# Altium schematic symbol library WTFschlibra.SchLib: 42 symbols
Pins are listed as number, name and electrical type; pins without a type are passive.

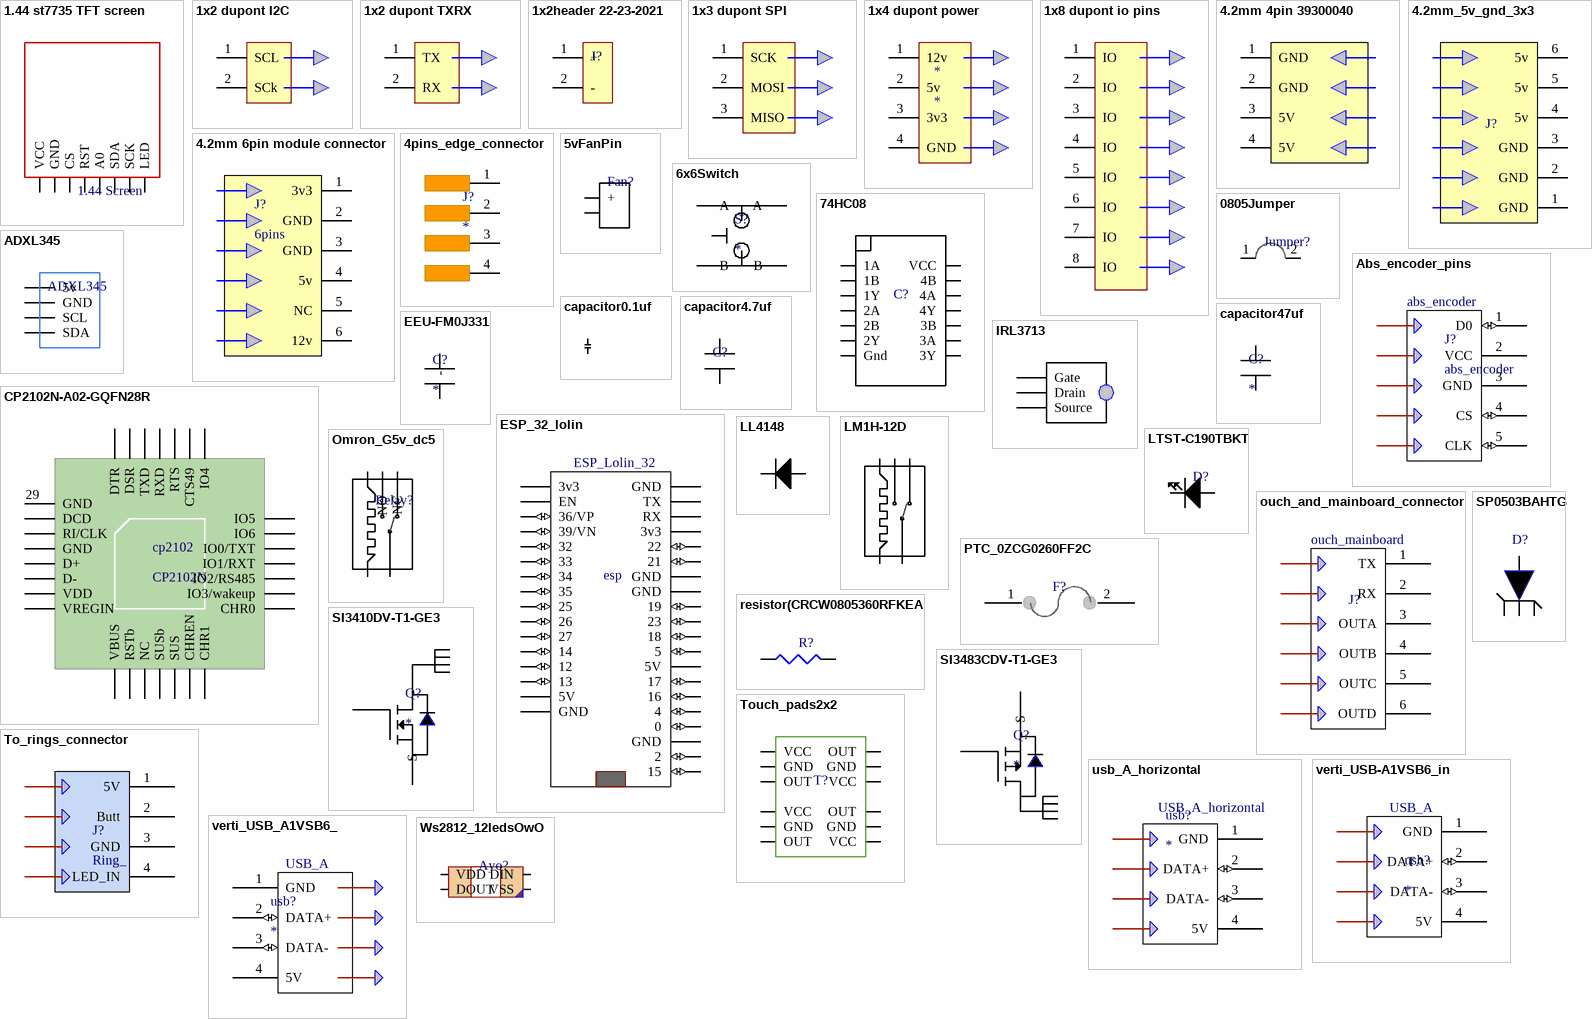
[diagram p0: symbols 1.44 st7735 TFT screen to Ws2812_12ledsOwO]

## 1.44 st7735 TFT screen
designator Screen, comment 1.44 Screen
footprint 1.44TFT Screen
pins: 1 VCC, 2 GND, 3 CS, 4 RST, 5 A0, 6 SDA, 7 SCK, 8 LED

## 1x2 dupont I2C
designator J?  (value not drawn)
footprint 1x2 dupont
pins: 1 SCL, 2 SCk

## 1x2 dupont TXRX
designator J?  (value not drawn)
footprint 1x2 dupont
pins: 1 TX, 2 RX

## 1x2header 22-23-2021
designator J?, comment 1*2 Header  (value not drawn)
Connector Wire to Board Header 2 Position 2.54mm Solder Stra; Manufacturer 1: Molex; Contact Resistance: 10mR; Max Current Rating: 4A; Voltage Rating: 250V; Number of Positions: 2; Gender: Male; Insulation Resistance: 500GR; Approvals: UL,CSA; Glow Wire Compliant: Non-compliant; Supplier 1: Digi-Key; Manufacturer Part Number 1: 22-23-2021; RoHS: Yes; Category: Headers and Wire Housings; Stock 1: 28103; Mount: Through Hole; Contact Plating: Tin,Copper; Housing Color: White; Housing Material: Nylon; Min Operating Temperature: 0°C; Max Operating Temperature: 75°C; Number of Rows: 1; Current Rating: 4A; Package Quantity: 3000; Packaging: Bulk; Termination: Through Hole; Number of Contacts: 2; Orientation: Straight; Voltage Rating (DC): 250V; Number of Circuits: 2; Length: 5.08mm; Pitch: 2.54mm; Depth: 6.35mm; Radiation Hardening: No; REACH SVHC: Unknown; Halogen Free: Low Halogen; Lead Free: Lead Free; Flammability Rating: UL94 V-0; ComponentLink1URL: https://datasheet.ciiva.com/19454/232266-19454304.pdf?src-supplier=Jameco; ComponentLink1Description: https://datasheet.ciiva.com/19454/232266-19454304.pdf?src-supplier=Jameco; ComponentLink2URL: https://datasheet.ciiva.com/5150/0022232021-pcb-headers-227096-5150681.pdf?src-supplier=Mouser; ComponentLink2Description: https://datasheet.ciiva.com/5150/0022232021-pcb-headers-227096-5150681.pdf?src-supplier=Mouser; ComponentLink3URL: https://datasheet.ciiva.com/22683/1834442-22683561.pdf?src-supplier=Element14; ComponentLink3Description: https://datasheet.ciiva.com/22683/1834442-22683561.pdf?src-supplier=Element14; ComponentLink4URL: https://datasheet.ciiva.com/11746/0900766b80d8f4d1-11746058.pdf?src-supplier=RSComponents; ComponentLink4Description: https://datasheet.ciiva.com/11746/0900766b80d8f4d1-11746058.pdf?src-supplier=RSComponents; ComponentLink5URL: https://datasheet.ciiva.com/30253/114200022232021-pcb-headers-30253002.pdf?src-supplier=Onlinecomponents.com; ComponentLink5Description: https://datasheet.ciiva.com/30253/114200022232021-pcb-headers-30253002.pdf?src-supplier=Onlinecomponents.com; ComponentLink6URL: https://datasheet.ciiva.com/18453/70190606-18453638.pdf?src-supplier=Allied+Electronics; ComponentLink6Description: https://datasheet.ciiva.com/18453/70190606-18453638.pdf?src-supplier=Allied+Electronics; ComponentLink7URL: https://datasheet.ciiva.com/16658/0022232021-pcb-headers-16658167.pdf?src-supplier=Avnet+Europe; ComponentLink7Description: https://datasheet.ciiva.com/16658/0022232021-pcb-headers-16658167.pdf?src-supplier=Avnet+Europe; ComponentLink8URL: https://datasheet.ciiva.com/9468/0022232021-pcb-headers-9468476.pdf?src-supplier=Avnet; ComponentLink8Description: https://datasheet.ciiva.com/9468/0022232021-pcb-headers-9468476.pdf?src-supplier=Avnet; Supplier Part Number 1: 900-0022232021-ND; Color: White; Contact Material: Brass; Height: 10.67mm
footprint Header1x2
pins: 1 +, 2 -

## 1x3 dupont SPI
designator J?  (value not drawn)
footprint 1x3 DUPONT
pins: 1 SCK, 2 MOSI, 3 MISO

## 1x4 dupont power
designator *
footprint 1x4 DUPONT
pins: 1 12v, 2 5v, 3 3v3, 4 GND

## 1x8 dupont io pins
designator j?  (value not drawn)
footprint 1x8 dupont
pins: 1 IO, 2 IO, 3 IO, 4 IO, 5 IO, 6 IO, 7 IO, 8 IO

## 4.2mm 4pin 39300040
designator J?
for neopixels array; Manufacturer 1: Molex; Number of Terminals/Pins: 4; Connector Type: Header,Male Pin; Number of Ports: 1; Gender: Male; Contact Resistance: 10mR; Pitch: 4.2mm; Row Spacing: 0.165inch; Supplier 1: Digi-Key; Manufacturer Part Number 1: 39-29-1048; RoHS: Yes; Category: Headers and Wire Housings; Stock 1: 1264; Pricing 1: 1=0.89000, 10=0.78000, 100=0.67300, 500=0.55062, 1000=0.48944, 5000=0.42826, 10000=0.40685 (USD); Mount: Through Hole; Contact Shape: Square; Insulation Material: Nylon; Insulation Color: Natural; Housing Material: Nylon; Housing Color: Natural; Contact Material: Brass; Contact Plating: Tin,Copper; Color: Natural; Min Operating Temperature: -40°C; Max Operating Temperature: 105°C; Packaging: Bulk; Number of Positions: 4; Termination: Solder; Number of Contacts: 4; Orientation: Right Angle; Number of Rows: 2; Fastening Type: Ramp; Length: 19.6mm; Depth: 19.4mm; Flammability Rating: UL94 V-2; Supplier Part Number 1: WM3901-ND; ComponentLink7Description: realdatasheet; ComponentLink7URL: https://www.molex.com/pdm_docs/sd/039300040_sd.pdf
footprint 4.2mm 4pos
footprint 1x4 DUPONT
pins: 1 GND, 2 GND, 3 5V, 4 5V

## 4.2mm 6pin module connector
designator J?, comment 6pins
MiniFit Jr RA Hdr Assy LCP 6 w/press pgs; Manufacturer 1: Molex; Current Rating: 13A; Voltage Rating: 600V; Number of Positions: 6; Pitch: 4.2mm; Supplier 1: Digi-Key; Manufacturer Part Number 1: 50-36-2462; RoHS: Yes; Category: Headers and Wire Housings; Stock 1: 3080; Pricing 1: 1=1.09000, 10=0.96100, 100=0.82900, 500=0.67824, 1000=0.60288, 5000=0.52752, 10000=0.50114 (USD); Mount: Through Hole; Number of Pins: 6; Contact Plating: Tin; Housing Material: Polymer; Material: Brass; Contact Material: Brass; Min Operating Temperature: -40°C; Max Operating Temperature: 105°C; Contact Gender: Male; Packaging: Tray; Package Quantity: 920; Number of Rows: 2; Termination: Through Hole; Orientation: Right Angle; Row Spacing: 4.2mm; Flammability Rating: UL94 V-0; REACH SVHC: No SVHC; ELV: Compliant; ComponentLink1URL: https://datasheet.ciiva.com/29142/050362462-sd-29142097.pdf?src-supplier=Digi-Key; ComponentLink1Description: https://datasheet.ciiva.com/29142/050362462-sd-29142097.pdf?src-supplier=Digi-Key; Supplier Part Number 1: WM14529-ND; ComponentLink2Description: dimention; ComponentLink2URL: https://www.molex.com/pdm_docs/sd/050362462_sd.pdf
footprint 4.2mm 6pin power connector
pins: 1 3v3 (power), 2 GND (power), 3 GND (power), 4 5v (power), 5 NC, 6 12v (power)

## 4.2mm_5v_gnd_3x3
designator J?  (value not drawn)
footprint 4.2MM_6pin_all_5
pins: 1 GND (power), 2 GND, 3 GND (power), 4 5v (power), 5 5v (power), 6 5v (power)

## 4pins_edge_connector
designator J?
footprint 4pins_edge_connector
pins: 1 +5v, 2 Data, 3 GND, 4 Button

## 5vFanPin
designator Fan?  (value not drawn)
footprint 1x2 dupont
pins: 1 +, 2 -

## 6x6Switch
designator S?
footprint 6x6Switch
pins: 1 A, 2 B, 3 B, 4 A

## 74HC08
designator C?, comment 74hc08d  (value not drawn)
ComponentLink1Description: 4 2-input and gate; ComponentLink1URL: https://pdf1.alldatasheet.com/datasheet-pdf/view/646498/PHILIPS/74HC08D.html
footprint SOP14(74hc08d)
pins: 1 1A, 2 1B, 3 1Y, 4 2A, 5 2B, 6 2Y, 7 Gnd, 8 3Y, 9 3A, 10 3B, 11 4Y, 12 4A, 13 4B, 14 VCC

## 0805Jumper
designator Jumper?  (value not drawn)
footprint 0805Jumper
pins: 1, 2

## Abs_encoder_pins
designator J?, comment abs_encoder
ComponentLink1Description: datasheet; ComponentLink1URL: http://www.jst-mfg.com/product/pdf/eng/eXH.pdf
footprint xh 2.54 5 pin
pins: 1 D0 (io), 2 VCC (power), 3 GND (power), 4 CS (io), 5 CLK (io)

## ADXL345
designator ADXL345  (value not drawn)
footprint ADXL345
pins: 1 5v, 2 GND, 3 SCL, 4 SDA

## capacitor0.1uf
designator C?  (value not drawn)
for leds and smol
footprint Capacitor0805
pins: 1 -, 2 +

## capacitor4.7uf
designator C?  (value not drawn)
Cap Ceramic 4.7uF 6.3V X5R 20% Pad SMD 0402 85C T/R; Manufacturer 1: Murata; Manufacturer Part Number 1: GRM155R60J475ME87J; Supplier 1: Digi-Key; RoHS: No; Category: Ceramic Capacitors; Stock 1: 206568; Pricing 1: 1=0.16000, 10=0.11100, 50=0.06280, 100=0.05210, 500=0.03654, 1000=0.03025, 2500=0.02815, 5000=0.02575 (USD); Capacitance: 4.7uF; Tolerance: 20%; Dielectric: X5R; Voltage Rating (DC): 6.3V; Length: 1mm; Thickness: 500um; Width: 500um; ComponentLink1URL: https://search.murata.co.jp/Ceramy/image/img/A01X/G101/ENG/GRM155R60J475ME87-01.pdf?src-supplier=Digi-Key; ComponentLink1Description: https://search.murata.co.jp/Ceramy/image/img/A01X/G101/ENG/GRM155R60J475ME87-01.pdf?src-supplier=Digi-Key; Supplier Part Number 1: 490-18211-1-ND
footprint Capacitor0603
pins: 1 -, 2 +

## capacitor47uf
designator C?
Capacitor, 47 µF, 25 V, 1206 [3216 Metric], ± 20%, X5R, C Series; Manufacturer 1: TDK; Manufacturer Part Number 1: C3216X5R1E476M160AC; Dielectric Material: Ceramic; Capacitance: 47uF; Voltage Rating: 25V; Supplier 1: Digi-Key; RoHS: Yes; Category: Ceramic Capacitors; Stock 1: 901922; Pricing 1: 1=1.15000, 10=0.90800, 50=0.78660, 100=0.68060, 500=0.51426, 1000=0.45375 (USD); Mount: Surface Mount; Case/Package: 1206; Weight: 0.000571oz; Case Code (Metric): 3216; Case Code (Imperial): 1206; Min Operating Temperature: -55°C; Max Operating Temperature: 85°C; Packaging: Tape and Reel; Package Quantity: 1; Tolerance: 20%; Voltage Rating (DC): 25V; Dielectric: X5R; Termination: SMD/SMT; Resistor Type: Ceramic; Voltage: 25V; Length: 3.2mm; Height: 1.6mm; Width: 0.063inch; Depth: 1.6mm; Thickness: 1.6mm; REACH SVHC: No SVHC; Lead Free: Lead Free; ComponentLink1URL: https://datasheet.ciiva.com/6285/tdkmlcccaprange-6285269.pdf?src-supplier=Digi-Key; ComponentLink1Description: https://datasheet.ciiva.com/6285/tdkmlcccaprange-6285269.pdf?src-supplier=Digi-Key; ComponentLink2URL: https://datasheet.ciiva.com/6285/tdkmlcccaprange-6285271.pdf?src-supplier=Digi-Key; ComponentLink2Description: https://datasheet.ciiva.com/6285/tdkmlcccaprange-6285271.pdf?src-supplier=Digi-Key; ComponentLink3URL: https://datasheet.ciiva.com/6285/tdkmlcccaprange-6285273.pdf?src-supplier=Digi-Key; ComponentLink3Description: https://datasheet.ciiva.com/6285/tdkmlcccaprange-6285273.pdf?src-supplier=Digi-Key; ComponentLink4URL: https://datasheet.ciiva.com/16482/general-b11-16482556.pdf?src-supplier=Future+Electronics; ComponentLink4Description: https://datasheet.ciiva.com/16482/general-b11-16482556.pdf?src-supplier=Future+Electronics; Supplier Part Number 1: 445-8047-1-ND
footprint Capacitor1206
pins: 1 -, 2 +

## CP2102N-A02-GQFN28R
designator cp2102, comment CP2102N
Full Speed USB to UART Bridge USB 2.0 3.3V T/R Automotive 28-Pin QFN EP; Manufacturer 1: Silicon Labs; Manufacturer Part Number 1: CP2102N-A02-GQFN28R; Supplier 1: Digi-Key; RoHS: No; Stock 1: 1682; Pricing 1: 1=1.40000, 25=1.35160, 100=1.29950 (USD); Supplier Part Number 1: 336-5890-1-ND
footprint CP2102N_QFN28
pins: 1 DCD, 2 RI/CLK, 3 GND, 4 D+, 5 D-, 6 VDD, 7 VREGIN, 8 VBUS, 9 RSTb, 10 NC, 11 SUSb, 12 SUS, 13 CHREN, 14 CHR1, 15 CHR0, 16 IO3/wakeup, 17 IO2/RS485, 18 IO1/RXT, 19 IO0/TXT, 20 IO6, 21 IO5, 22 IO4, 23 CTS49, 24 RTS, 25 RXD, 26 TXD, 27 DSR, 28 DTR, 29 GND

## EEU-FM0J331
designator C?
Cap 330 uF;  Tol 20%;  Vol-Rtg 6.3 VDC;  Radial;  6.3x11.2;  Bulk; Manufacturer 1: Panasonic; Manufacturer Part Number 1: EEU-FM0J331; Dielectric Material: Aluminium; Ripple Current (AC): 455mA; Capacitance: 330uF; Voltage Rating: 6.3V; Impedance: 130mR; Life (Hours): 2000Hour; Leakage Current: 10nA; Lead Length: 17mm; Lead Diameter: 0.5mm; Outside Diameter: 6mm; Supplier 1: Digi-Key; RoHS: Yes; Category: Aluminum Electrolytic Capacitors; Stock 1: 15455; Pricing 1: 1=0.30000, 10=0.21200, 50=0.14800, 100=0.12690, 500=0.09518, 1000=0.08037, 2500=0.07614, 5000=0.07191 (USD); Mount: Through Hole,PCB; Case/Package: Radial; Number of Pins: 2; Min Operating Temperature: -40°C; Max Operating Temperature: 105°C; Packaging: Bulk; Tolerance: 20%; Ripple Current: 455mA; Package Quantity: 200; ESR (Equivalent Series Resistance): 130mR; Voltage Rating (DC): 6.3V; Termination: Radial; Voltage: 6.3V; Diameter: 6mm; Length: 11.2mm; Height: 11.2mm; Lead Pitch: 2.5mm; Height - Seated (Max): 0.5inch; Radiation Hardening: No; Lead Free: Lead Free; REACH SVHC: No SVHC; ComponentLink1URL: https://datasheet.ciiva.com/11778/0900766b805f3abe-11778876.pdf?src-supplier=RSComponents; ComponentLink1Description: https://datasheet.ciiva.com/11778/0900766b805f3abe-11778876.pdf?src-supplier=RSComponents; ComponentLink2URL: https://datasheet.ciiva.com/92/aba0000ce108-92408.pdf?src-supplier=Digi-Key; ComponentLink2Description: https://datasheet.ciiva.com/92/aba0000ce108-92408.pdf?src-supplier=Digi-Key; ComponentLink3URL: https://datasheet.ciiva.com/30086/aba0000ce108-30086253.pdf?src-supplier=Onlinecomponents.com; ComponentLink3Description: https://datasheet.ciiva.com/30086/aba0000ce108-30086253.pdf?src-supplier=Onlinecomponents.com; ComponentLink4URL: https://datasheet.ciiva.com/16432/aba0000ce108-16432949.pdf?src-supplier=Future+Electronics; ComponentLink4Description: https://datasheet.ciiva.com/16432/aba0000ce108-16432949.pdf?src-supplier=Future+Electronics; ComponentLink5URL: https://datasheet.ciiva.com/46441/26036-46441017.pdf?src-supplier=Element14; ComponentLink5Description: https://datasheet.ciiva.com/46441/26036-46441017.pdf?src-supplier=Element14; ComponentLink6URL: https://datasheet.ciiva.com/14608/70068540-14608622.pdf?src-supplier=Allied+Electronics; ComponentLink6Description: https://datasheet.ciiva.com/14608/70068540-14608622.pdf?src-supplier=Allied+Electronics; Supplier Part Number 1: P12918-ND
footprint 2.5mmCapacitor
pins: 1 -, 2 +

## ESP_32_lolin
designator esp, comment processor  (value not drawn)
footprint ESP_32_socket
pins: 1 GND (power), 2 TX, 3 RX, 4 3v3 (power), 5 22 (io), 6 21 (io), 7 GND (power), 8 GND (power), 9 19 (io), 10 23 (io), 11 18 (io), 12 5 (io), 13 5V (power), 14 17 (io), 15 16 (io), 16 4 (io), 17 0 (io), 18 GND (power), 19 2 (io), 20 15 (io), 21 3v3 (power), 22 EN "5v", 23 36/VP (io), 24 39/VN (io), 25 32 (io), 26 33 (io), 27 34 (io), 28 35 (io), 29 25 (io), 30 26 (io), 31 27 (io), 32 14 (io), 33 12 (io), 34 13 (io), 35 5V (power), 36 GND (power)
text: ESP_Lolin_32

## IRL3713
designator *  (value not drawn)
footprint TO_220
pins: 1 Gate, 2 Drain, 3 Source

## LL4148
designator D?  (value not drawn)
ON SEMICONDUCTOR - LL4148 - Small Signal Diode, Single, 100 V, 200 mA, 1 V, 4 ns, 2 A; Manufacturer 1: ON Semiconductor / Fairchild; Average Rectified Current: 200mA; Max Repetitive Reverse Voltage (Vrrm): 100V; Max Surge Current: 2A; Forward Voltage: 1V; Max Reverse Current: 25nA; Recovery Time: 4ns; Power Dissipation: 500mW; Supplier 1: Digi-Key; Manufacturer Part Number 1: LL4148; RoHS: Yes; Category: Rectifier Diodes; Stock 1: 428902; Pricing 1: 1=0.10000, 10=0.08400, 100=0.03220, 500=0.02346, 1000=0.01575 (USD); Mount: Surface Mount; Number of Pins: 2; Weight: 0.01lb; Contact Plating: Tin,Matte; Min Operating Temperature: -65°C; Max Operating Temperature: 175°C; Packaging: Tape and Reel; Package Quantity: 2500; Forward Current: 200mA; Reverse Recovery Time: 4ns; Peak Non-Repetitive Surge Current: 2A; Max Forward Surge Current (Ifsm): 2A; Element Configuration: Single; Voltage: 100V; Max Reverse Voltage (DC): 100V; Reverse Voltage: 100V; Length: 3.6mm; Width: 1.5mm; Height: 1.5mm; Radiation Hardening: No; REACH SVHC: No SVHC; Lead Free: Lead Free; ComponentLink1URL: https://datasheet.ciiva.com/1181/1730036-1181026.pdf?src-supplier=Element14; ComponentLink1Description: https://datasheet.ciiva.com/1181/1730036-1181026.pdf?src-supplier=Element14; ComponentLink2URL: https://datasheet.ciiva.com/8303/ll4148-8303779.pdf?src-supplier=Avnet; ComponentLink2Description: https://datasheet.ciiva.com/8303/ll4148-8303779.pdf?src-supplier=Avnet; ComponentLink3URL: https://datasheet.ciiva.com/27048/94908-27048041.pdf?src-supplier=Jameco; ComponentLink3Description: https://datasheet.ciiva.com/27048/94908-27048041.pdf?src-supplier=Jameco; ComponentLink4URL: https://datasheet.ciiva.com/4453/ll4148-70504-4453114.pdf?src-supplier=Mouser; ComponentLink4Description: https://datasheet.ciiva.com/4453/ll4148-70504-4453114.pdf?src-supplier=Mouser; ComponentLink5URL: https://datasheet.ciiva.com/910/ll4148-910343.pdf?src-supplier=Digi-Key; ComponentLink5Description: https://datasheet.ciiva.com/910/ll4148-910343.pdf?src-supplier=Digi-Key; ComponentLink6URL: https://datasheet.ciiva.com/910/ll4148-910344.pdf?src-supplier=Digi-Key; ComponentLink6Description: https://datasheet.ciiva.com/910/ll4148-910344.pdf?src-supplier=Digi-Key; ComponentLink7URL: https://datasheet.ciiva.com/910/ll4148-910345.pdf?src-supplier=Digi-Key; ComponentLink7Description: https://datasheet.ciiva.com/910/ll4148-910345.pdf?src-supplier=Digi-Key; ComponentLink8URL: https://datasheet.ciiva.com/22735/1896420-22735578.pdf?src-supplier=Element14; ComponentLink8Description: https://datasheet.ciiva.com/22735/1896420-22735578.pdf?src-supplier=Element14; ComponentLink9URL: https://datasheet.ciiva.com/26912/getdatasheetpartid-110057-26912779.pdf?src-supplier=Verical; ComponentLink9Description: https://datasheet.ciiva.com/26912/getdatasheetpartid-110057-26912779.pdf?src-supplier=Verical; ComponentLink10URL: https://datasheet.ciiva.com/8053/1896420-8053645.pdf?src-supplier=Element14; ComponentLink10Description: https://datasheet.ciiva.com/8053/1896420-8053645.pdf?src-supplier=Element14; Supplier Part Number 1: LL4148FSCT-ND
footprint SOD80-LL4148
pins: 1, 2

## LM1H-12D
designator Relay?  (value not drawn)
footprint Relay LM1H-12D
pins: 1 Coli_A, 2 Coli_B, 3 COM, 4 NO, 5 NC

## LTST-C190TBKT
designator D?, comment Led  (value not drawn)
LED BLUE CLEAR CHIP SMD; Manufacturer 1: Vishay Lite-On; Manufacturer Part Number 1: LTST-C190TBKT; Lens Color: Colorless; Viewing Angle: 130°; Forward Voltage: 3.8V; Lens Style: Diffused,Colorless,Clear,Rectangular; Luminous Intensity: 180mcd; Forward Current: 20mA; Dominant Wavelength: 475nm; Number of Elements: 1; Power Dissipation: 76mW; Wavelength: 468nm; Reverse Voltage: 5V; Supplier 1: Digi-Key; RoHS: Yes; Category: LEDs; Stock 1: 76203; Pricing 1: 1=0.50000, 10=0.35600, 100=0.15840, 500=0.11088, 1000=0.09108 (USD); Mount: Surface Mount; Case/Package: 0603; Number of Pins: 2; Color: Blue; Case Code (Metric): 1608; Case Code (Imperial): 0603; Min Operating Temperature: -20°C; Max Operating Temperature: 80°C; Packaging: Tape and Reel; Package Quantity: 1; Illumination Color: Blue; Test Current: 20mA; Lens Transparency: Clear; Number of LEDs: 1; Length: 1.6mm; Height: 0.8mm; Width: 0.8mm; Depth: 0.8mm; Radiation Hardening: No; Lead Free: Lead Free; ComponentLink1URL: https://datasheet.ciiva.com/16353/lite-on20ltst-c190tbkt-16353409.pdf?src-supplier=Future+Electronics; ComponentLink1Description: https://datasheet.ciiva.com/16353/lite-on20ltst-c190tbkt-16353409.pdf?src-supplier=Future+Electronics; ComponentLink2URL: https://datasheet.ciiva.com/15117/getdatasheetpartid-131310-15117667.pdf?src-supplier=Verical; ComponentLink2Description: https://datasheet.ciiva.com/15117/getdatasheetpartid-131310-15117667.pdf?src-supplier=Verical; ComponentLink3URL: https://datasheet.ciiva.com/2110/ltst-c190tbkt-2110473.pdf?src-supplier=Digi-Key; ComponentLink3Description: https://datasheet.ciiva.com/2110/ltst-c190tbkt-2110473.pdf?src-supplier=Digi-Key; ComponentLink4URL: https://datasheet.ciiva.com/12400/lite-on-ltst-c190tbkt-187381-12400873.pdf?src-supplier=Mouser; ComponentLink4Description: https://datasheet.ciiva.com/12400/lite-on-ltst-c190tbkt-187381-12400873.pdf?src-supplier=Mouser; ComponentLink5URL: https://datasheet.ciiva.com/11774/0900766b80dc02ab-11774378.pdf?src-supplier=RSComponents; ComponentLink5Description: https://datasheet.ciiva.com/11774/0900766b80dc02ab-11774378.pdf?src-supplier=RSComponents; ComponentLink6URL: https://datasheet.ciiva.com/26913/ltst-c190tbkt-26913716.pdf?src-supplier=IIIC; ComponentLink6Description: https://datasheet.ciiva.com/26913/ltst-c190tbkt-26913716.pdf?src-supplier=IIIC; ComponentLink7URL: https://datasheet.ciiva.com/2110/s-110-ltst-c190tbkt0630-2110475.pdf?src-supplier=Digi-Key; ComponentLink7Description: https://datasheet.ciiva.com/2110/s-110-ltst-c190tbkt0630-2110475.pdf?src-supplier=Digi-Key; ComponentLink8Description: 橘色的; ComponentLink8URL: https://www.digikey.tw/product-detail/zh/lite-on-inc/LTST-C191KFKT/160-1445-1-ND/386832
footprint LED0603
pins: 1, 2

## Omron_G5v_dc5
designator Relay?  (value not drawn)
ComponentLink1Description: datasheed_be_aware of pin; ComponentLink1URL: https://omronfs.omron.com/en_US/ecb/products/pdf/en-g5v_1.pdf
footprint G5v1_5vdc
pins: 1 Coli_A, 2 Coli_B, 3 COM, 4 NC, 5 NO

## ouch_and_mainboard_connector
designator J?  (value not drawn)
footprint xh2.54 6pin
pins: 1 TX, 2 RX, 3 OUTA, 4 OUTB, 5 OUTC, 6 OUTD
text: ouch_mainboard

## PTC_0ZCG0260FF2C
designator F?  (value not drawn)
ComponentLink1Description: Digikey; ComponentLink1URL: https://www.digikey.tw/product-detail/zh/bel-fuse-inc/0ZCG0260FF2C/507-1778-1-ND/4156282
footprint SMD_1812
pins: 1, 2

## resistor(CRCW0805360RFKEA
designator R?, comment 360R  (value not drawn)
Res Thick Film 0805 360 Ohm 1% 0.125W(1/8W) ±100ppm/C Molded SMD Automotive Paper T/R; Manufacturer 1: Vishay; Manufacturer Part Number 1: CRCW0805360RFKEA; Temperature Coefficient: 100ppm/°C; Max Power Dissipation: 125mW; Voltage Rating (DC): 150V; Supplier 1: Digi-Key; RoHS: Yes; Category: Chip SMD Resistors; Stock 1: 25005; Pricing 1: 1=0.10000, 10=0.06000, 100=0.02450, 1000=0.01102, 2500=0.00957 (USD); Case/Package: 0805; Number of Pins: 2; Weight: 0.000194oz; Case Code (Metric): 2012; Case Code (Imperial): 0805; Contact Plating: Tin; Number of Terminals: 2; Min Operating Temperature: -55°C; Max Operating Temperature: 155°C; Resistance: 360R; Tolerance: 1%; Packaging: Tape and Reel; Composition: Thick Film; Package Quantity: 10; Number of Terminations: 2; Features: Automotive AEC-Q200; Power Rating: 125mW; Voltage Rating: 150V; Termination: SMD/SMT; Military Standard: Not; Length: 2mm; Height: 0.45mm; Width: 0.049inch; Depth: 1.25mm; Radiation Hardening: No; Lead Free: Lead Free; REACH SVHC: Unknown; ComponentLink1URL: https://datasheet.ciiva.com/2467/dcrcwe3-2467773.pdf?src-supplier=Digi-Key; ComponentLink1Description: https://datasheet.ciiva.com/2467/dcrcwe3-2467773.pdf?src-supplier=Digi-Key; Supplier Part Number 1: 541-360CCT-ND
footprint R0805
pins: 1, 2

## SI3410DV-T1-GE3
designator Q?
Vishay N-channel MOSFET Transistor, 8 A, 30 V, 6-pin TSOP; Manufacturer 1: Vishay Siliconix; Manufacturer Part Number 1: SI3410DV-T1-GE3; Continuous Drain Current (ID): 8A; Drain to Source Voltage (Vdss): 30V; Drain to Source Resistance: 19.5mR; Gate to Source Voltage (Vgs): 20V; Max Power Dissipation: 2W; Fall Time: 9ns; Turn-Off Delay Time: 20ns; Number of Elements: 1; Threshold Voltage: 3V; Element Configuration: Single; Turn-On Delay Time: 21ns; Input Capacitance: 1.295nF; Rise Time: 14ns; Supplier 1: Digi-Key; RoHS: Yes; Category: MOSFETs; Stock 1: 30048; Pricing 1: 1=0.79000, 10=0.69300, 25=0.65120, 100=0.47250, 500=0.39480, 1000=0.33600 (USD); Mount: Surface Mount; Case/Package: TSOP; Number of Pins: 6; Weight: 0.000705oz; Min Operating Temperature: -55°C; Max Operating Temperature: 150°C; Power Dissipation: 2W; Number of Channels: 1; Packaging: Tape and Reel; Package Quantity: 3000; Nominal Vgs: 3V; Rds On Max: 19.5mR; Radiation Hardening: No; Lead Free: Lead Free; REACH SVHC: Unknown; ComponentLink1URL: https://datasheet.ciiva.com/22745/1750679-22745605.pdf?src-supplier=Farnell; ComponentLink1Description: https://datasheet.ciiva.com/22745/1750679-22745605.pdf?src-supplier=Farnell; ComponentLink2URL: https://datasheet.ciiva.com/11160/si3410dv-11160935.pdf?src-supplier=Avnet; ComponentLink2Description: https://datasheet.ciiva.com/11160/si3410dv-11160935.pdf?src-supplier=Avnet; ComponentLink3URL: https://datasheet.ciiva.com/932/si3410dv-932555.pdf?src-supplier=Digi-Key; ComponentLink3Description: https://datasheet.ciiva.com/932/si3410dv-932555.pdf?src-supplier=Digi-Key; ComponentLink4URL: https://datasheet.ciiva.com/932/si3410dv-932557.pdf?src-supplier=Digi-Key; ComponentLink4Description: https://datasheet.ciiva.com/932/si3410dv-932557.pdf?src-supplier=Digi-Key; ComponentLink5URL: https://datasheet.ciiva.com/932/si3410dv-932556.pdf?src-supplier=Digi-Key; ComponentLink5Description: https://datasheet.ciiva.com/932/si3410dv-932556.pdf?src-supplier=Digi-Key; ComponentLink6URL: https://datasheet.ciiva.com/7691/1750679-7691852.pdf?src-supplier=Element14; ComponentLink6Description: https://datasheet.ciiva.com/7691/1750679-7691852.pdf?src-supplier=Element14; Supplier Part Number 1: SI3410DV-T1-GE3CT-ND
pins: 1 D, 2 D, 3 G, 4 S, 5 D, 6 D

## SI3483CDV-T1-GE3
designator Q?
MOSFET P-CH 30V 8A 6-TSOP; Manufacturer 1: Vishay Siliconix; Manufacturer Part Number 1: SI3483CDV-T1-GE3; Rds On Max: 34mR; Input Capacitance: 1nF; Nominal Vgs: -3V; Rise Time: 15ns; Element Configuration: Single; Drain to Source Breakdown Voltage: -30V; Continuous Drain Current (ID): 6.1A; Max Power Dissipation: 4.2W; Gate to Source Voltage (Vgs): 20V; Fall Time: 10ns; Turn-Off Delay Time: 30ns; Number of Elements: 1; Power Dissipation: 2W; Supplier 1: Digi-Key; RoHS: Yes; Category: MOSFETs; Stock 1: 336348; Pricing 1: 1=0.96000, 10=0.85600, 25=0.81200, 100=0.60900, 500=0.51620, 1000=0.42050 (USD); Mount: Surface Mount; Case/Package: TSOP; Number of Pins: 6; Weight: 0.000705oz; Contact Plating: Tin,Matte; Min Operating Temperature: -55°C; Max Operating Temperature: 150°C; Package Quantity: 1; Packaging: Tape and Reel; Drain to Source Voltage (Vdss): -30V; Drain to Source Resistance: 34mR; Threshold Voltage: -3V; Number of Channels: 1; Turn-On Delay Time: 10ns; Length: 3.05mm; Height: 1mm; Width: 1.65mm; Radiation Hardening: No; Lead Free: Lead Free; REACH SVHC: Unknown; ComponentLink1URL: https://datasheet.ciiva.com/11158/si3483cd-11158801.pdf?src-supplier=Avnet; ComponentLink1Description: https://datasheet.ciiva.com/11158/si3483cd-11158801.pdf?src-supplier=Avnet; ComponentLink2URL: https://datasheet.ciiva.com/941/si3483cd-941665.pdf?src-supplier=Digi-Key; ComponentLink2Description: https://datasheet.ciiva.com/941/si3483cd-941665.pdf?src-supplier=Digi-Key; ComponentLink3URL: https://datasheet.ciiva.com/941/si3483cd-941666.pdf?src-supplier=Digi-Key; ComponentLink3Description: https://datasheet.ciiva.com/941/si3483cd-941666.pdf?src-supplier=Digi-Key; ComponentLink4URL: https://datasheet.ciiva.com/941/si3483cd-941667.pdf?src-supplier=Digi-Key; ComponentLink4Description: https://datasheet.ciiva.com/941/si3483cd-941667.pdf?src-supplier=Digi-Key; ComponentLink5URL: https://datasheet.ciiva.com/26145/si3483cd-26145288.pdf?src-supplier=Avnet+Europe; ComponentLink5Description: https://datasheet.ciiva.com/26145/si3483cd-26145288.pdf?src-supplier=Avnet+Europe; Supplier Part Number 1: SI3483CDV-T1-GE3CT-ND
footprint SOP6
footprint TSOP6
pins: 1 D, 2 D, 3 G, 4 S, 5 D, 6 D

## SP0503BAHTG
designator D?  (value not drawn)
ESD Suppressor TVS 5.5V 4-Pin(3+Tab) SOT-143 T/R; Manufacturer 1: Littelfuse; Manufacturer Part Number 1: SP0503BAHTG; Element Configuration: Common Anode; Direction: Unidirectional; Capacitance: 30pF; Number of Channels: 3; Clamping Voltage: 8.5V; Power Line Protection: No; Polarity: Bidirectional,Unidirectional; Max Power Dissipation: 225mW; ESD Protection: Yes; Max Reverse Leakage Current: 100nA; Voltage Rating (DC): 5V; Diode Type: Avalanche; Supplier 1: Digi-Key; RoHS: Yes; Category: Diodes; Stock 1: 63906; Pricing 1: 1=0.80000, 10=0.66000, 100=0.51120, 500=0.38340, 1000=0.30885 (USD); Mount: Surface Mount; Case/Package: SOT-143; Number of Pins: 4; Min Operating Temperature: -40°C; Max Operating Temperature: 85°C; Operating Supply Voltage: 5.5V; Packaging: Tape and Reel; Number of Unidirectional Channels: 3; Reverse Standoff Voltage: 5.5V; Breakdown Voltage: 5.5V; Termination: SMD/SMT; Working Voltage: 5.5V; Peak Pulse Power: 225mW; Leakage Current: 100nA; Number of Elements: 3; Power Dissipation: 225mW; Resistor Type: Zener; Length: 3.04mm; Height: 1.05mm; Width: 1.4mm; Depth: 1.4mm; Radiation Hardening: No; REACH SVHC: No SVHC; Lead Free: Lead Free; ComponentLink1URL: https://datasheet.ciiva.com/15143/getdatasheetpartid-116020-15143550.pdf?src-supplier=Verical; ComponentLink1Description: https://datasheet.ciiva.com/15143/getdatasheetpartid-116020-15143550.pdf?src-supplier=Verical; ComponentLink2URL: https://datasheet.ciiva.com/332/sp05xxba-332550.pdf?src-supplier=Digi-Key; ComponentLink2Description: https://datasheet.ciiva.com/332/sp05xxba-332550.pdf?src-supplier=Digi-Key; ComponentLink3URL: https://datasheet.ciiva.com/8062/littefuse-spa-sp050x-8062422.pdf?src-supplier=Element14; ComponentLink3Description: https://datasheet.ciiva.com/8062/littefuse-spa-sp050x-8062422.pdf?src-supplier=Element14; ComponentLink4URL: https://datasheet.ciiva.com/22697/1911798-22697942.pdf?src-supplier=Element14; ComponentLink4Description: https://datasheet.ciiva.com/22697/1911798-22697942.pdf?src-supplier=Element14; ComponentLink5URL: https://datasheet.ciiva.com/332/sp05xxba-332551.pdf?src-supplier=Digi-Key; ComponentLink5Description: https://datasheet.ciiva.com/332/sp05xxba-332551.pdf?src-supplier=Digi-Key; ComponentLink6URL: https://datasheet.ciiva.com/16449/sp05xxba-16449463.pdf?src-supplier=Future+Electronics; ComponentLink6Description: https://datasheet.ciiva.com/16449/sp05xxba-16449463.pdf?src-supplier=Future+Electronics; ComponentLink7URL: https://datasheet.ciiva.com/332/sp05xxba-332552.pdf?src-supplier=Digi-Key; ComponentLink7Description: https://datasheet.ciiva.com/332/sp05xxba-332552.pdf?src-supplier=Digi-Key; ComponentLink8URL: https://datasheet.ciiva.com/4509/sp05x-leadfree-4509162.pdf?src-supplier=Mouser; ComponentLink8Description: https://datasheet.ciiva.com/4509/sp05x-leadfree-4509162.pdf?src-supplier=Mouser; ComponentLink9URL: https://datasheet.ciiva.com/7650/526672-7650894.pdf?src-supplier=Element14; ComponentLink9Description: https://datasheet.ciiva.com/7650/526672-7650894.pdf?src-supplier=Element14; Supplier Part Number 1: F2715CT-ND
footprint SP0503BAHTG - SOT143-4
pins: 1 +, 2, 3, 4

## To_rings_connector
designator J?, comment Ring_
footprint XH 2.54 4 PIN
pins: 1 5V, 2 Butt, 3 GND, 4 LED_IN

## Touch_pads2x2
designator T?  (value not drawn)
footprint TouchBoard2x2
pins: 1 VCC, 2 GND, 3 OUT, 4 VCC, 5 GND, 6 OUT, 7 VCC, 8 GND, 9 OUT, 10 VCC, 11 GND, 12 OUT

## usb_A_horizontal
designator usb?
4 Position Single Port Socket Right Angle Type A Through Hole USB; Manufacturer 1: TE Connectivity; Manufacturer Part Number 1: 292303-1; Plating: Bright,Tin; Current Rating: 1A; Voltage Rating (AC): 30V; Gender: Receptacle; Number of Ports: 1; Insulation Resistance: 1GR; Number of Contacts: 4; Plating Thickness: 0.76um; USB Standard: USB 2.0; Circuit Application: Signal; Connector System: Cable-to-Board; PCB Thickness: 0.062inch; Tail Length: 0.112inch; Pitch: 2.5mm; Approvals: UL; Supplier 1: Digi-Key; RoHS: Yes; Category: Audio / Video Connectors; Stock 1: 16277; Pricing 1: 1=1.49000, 10=1.35400, 25=1.27160, 50=1.21620, 100=1.16100, 250=1.05040, 500=0.96748, 1000=0.82926, 2500=0.77398 (USD); Mount: Through Hole,Horizontal; Contact Plating: Gold; Contact Material: Copper Alloy,Copper; Color: Black; Number of Terminals: 4; Housing Material: Thermoplastic; Housing Color: Black; Min Operating Temperature: -67°C; Max Operating Temperature: 185°C; Packaging: Rail/Tube; Package Quantity: 30; Connector Type: Receptacle; Termination: Through Hole; Number of Positions: 4; Orientation: Right Angle; Contact Current Rating: 1A; Length: 14.63mm; Depth: 14mm; REACH SVHC: No SVHC; Flammability Rating: UL94 V-0; Halogen Free: Halogen Free; ComponentLink1URL: https://datasheet.ciiva.com/851/eng-cd-292303-e9-851601.pdf?src-supplier=Farnell; ComponentLink1Description: https://datasheet.ciiva.com/851/eng-cd-292303-e9-851601.pdf?src-supplier=Farnell; ComponentLink2URL: https://datasheet.ciiva.com/1099/1653030-1099765.pdf?src-supplier=Newark; ComponentLink2Description: https://datasheet.ciiva.com/1099/1653030-1099765.pdf?src-supplier=Newark; ComponentLink3URL: https://datasheet.ciiva.com/1098/eng-cd-292303-e9-1098298.pdf?src-supplier=Element14; ComponentLink3Description: https://datasheet.ciiva.com/1098/eng-cd-292303-e9-1098298.pdf?src-supplier=Element14; ComponentLink4URL: https://datasheet.ciiva.com/11731/0900766b806d08c4-11731322.pdf?src-supplier=RSComponents; ComponentLink4Description: https://datasheet.ciiva.com/11731/0900766b806d08c4-11731322.pdf?src-supplier=RSComponents; ComponentLink5URL: https://datasheet.ciiva.com/14103/04270708-14103420.pdf?src-supplier=Distrelec; ComponentLink5Description: https://datasheet.ciiva.com/14103/04270708-14103420.pdf?src-supplier=Distrelec; ComponentLink6URL: https://datasheet.ciiva.com/19454/921651-19454494.pdf?src-supplier=Jameco; ComponentLink6Description: https://datasheet.ciiva.com/19454/921651-19454494.pdf?src-supplier=Jameco; ComponentLink7URL: https://datasheet.ciiva.com/16308/eng-cd-292303-e7-16308319.pdf?src-supplier=Future+Electronics; ComponentLink7Description: https://datasheet.ciiva.com/16308/eng-cd-292303-e7-16308319.pdf?src-supplier=Future+Electronics; ComponentLink8URL: https://datasheet.ciiva.com/3094/eng-ds-1-1773453-6-0908-3094357.pdf?src-supplier=Avnet; ComponentLink8Description: https://datasheet.ciiva.com/3094/eng-ds-1-1773453-6-0908-3094357.pdf?src-supplier=Avnet; ComponentLink9URL: https://datasheet.ciiva.com/16468/eng-ds-1-1773453-6-0908-16468232.pdf?src-supplier=Avnet+Asia; ComponentLink9Description: https://datasheet.ciiva.com/16468/eng-ds-1-1773453-6-0908-16468232.pdf?src-supplier=Avnet+Asia; ComponentLink10URL: https://datasheet.ciiva.com/851/eng-cd-292303-e9-851082.pdf?src-supplier=Digi-Key; ComponentLink10Description: https://datasheet.ciiva.com/851/eng-cd-292303-e9-851082.pdf?src-supplier=Digi-Key; ComponentLink11URL: https://datasheet.ciiva.com/8016/1653030-8016986.pdf?src-supplier=Element14; ComponentLink11Description: https://datasheet.ciiva.com/8016/1653030-8016986.pdf?src-supplier=Element14; ComponentLink12URL: https://datasheet.ciiva.com/14618/70041246-14618698.pdf?src-supplier=Allied+Electronics; ComponentLink12Description: https://datasheet.ciiva.com/14618/70041246-14618698.pdf?src-supplier=Allied+Electronics; ComponentLink13URL: https://datasheet.ciiva.com/25907/eng-ds-1-1773453-6-0908-25907515.pdf?src-supplier=Avnet+Europe; ComponentLink13Description: https://datasheet.ciiva.com/25907/eng-ds-1-1773453-6-0908-25907515.pdf?src-supplier=Avnet+Europe; ComponentLink14URL: https://datasheet.ciiva.com/30148/ddecontrolleractionsrchrtrvdocnm117734536doctypedsdoclan-30148862.pdf?src-supplier=Onlinecomponents.com; ComponentLink14Description: https://datasheet.ciiva.com/30148/ddecontrolleractionsrchrtrvdocnm117734536doctypedsdoclan-30148862.pdf?src-supplier=Onlinecomponents.com; Supplier Part Number 1: A31726-ND
footprint HORIZONTAL_USB_A_MALE_SOCKET
footprint USBA_male_socket
pins: 1 GND (power), 2 DATA+ (io), 3 DATA- (io), 4 5V (power)
text: USB_A_horizontal

## verti_USB-A1VSB6_in
designator usb?
USB_female; Manufacturer 1: On-Shore Technology; Manufacturer Part Number 1: USB-A1VSB6; Number of Contacts: 4; Gender: Receptacle; Connector Type: USB; Supplier 1: Digi-Key; RoHS: Yes; Category: Connectors; Stock 1: 6640; Pricing 1: 1=0.65000, 10=0.61200, 25=0.55080, 50=0.48960, 100=0.46920, 250=0.42840, 500=0.40800, 1000=0.33660, 2500=0.30600 (USD); Mount: Through Hole,Vertical; Package Quantity: 100; Packaging: Tray; Supplier Part Number 1: ED2988-ND; ComponentLink1Description: dimension; ComponentLink1URL: http://www.on-shore.com/wp-content/uploads/USB-A1VSXX.pdf
footprint USBA_male_socket
pins: 1 GND (power), 2 DATA+ (io), 3 DATA- (io), 4 5V (power)
text: USB_A

## verti_USB_A1VSB6_
designator usb?
USB_female
footprint USBA_male_socket
pins: 1 GND (power), 2 DATA+ (io), 3 DATA- (io), 4 5V (power)
text: USB_A

## Ws2812_12ledsOwO
designator Ayo?  (value not drawn)
footprint 12Xws2812b_owo
pins: 1 VDD (power), 2 DOUT, 3 VSS (power), 4 DIN

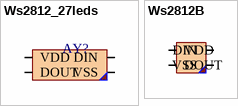
[diagram p1: symbols Ws2812_27leds to Ws2812B]

## Ws2812_27leds
designator AY?  (value not drawn)
footprint 27xWs2812B_withC
pins: 1 VDD (power), 2 DOUT, 3 VSS (power), 4 DIN

## Ws2812B
designator LED?  (value not drawn)
footprint ws2812b
footprint WS2812B_with_C
pins: 1 VDD, 2 DOUT, 3 VSS, 4 DIN